# Altium footprint library TI-TPS22860DBVR.PcbLib: 1 footprints
Each footprint in its own frame and in the unit in brackets; x right, y up, seen from the top. Pads: shape width x height; smd on the part's side, far side on the other; paste and mask are expansions set on the pad; w line width, h text height; cw(c..) or ccw(c..) is an arc to the next point about the centre after c.
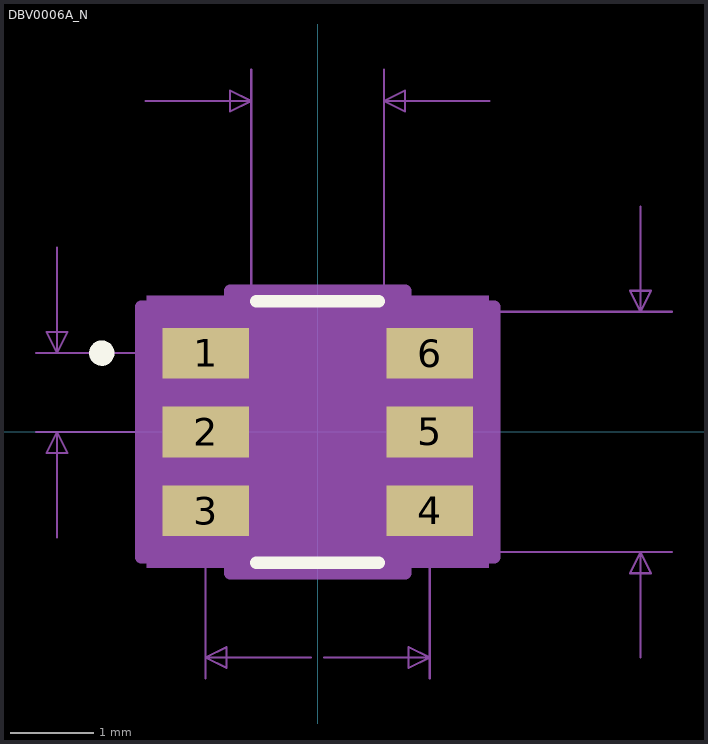
[diagram p0: the footprint, top view; thin cyan lines are the x and y axes]

## DBV0006A_N [mil]
pads (6):
  rect 41x24 smd paste+0 mask+3: 1(-53.15,37.4) 2(-53.15,0) 3(-53.15,-37.4) 4(53.15,-37.4) 5(53.15,0) 6(53.15,37.4)
Top Overlay:
  circle w6: c-102.35,37.4 r3
  lines w6: -29.06,-62 29.06,-62 ; -29.06,62 29.06,62
Mechanical 5:
  region: 81.15,-64.5 -81.15,-64.5 -81.15,64.5 81.15,64.5
Mechanical 7:
  lines w1: -133.65,0 -53.15,0 ; -133.65,37.4 -53.15,37.4 ; -123.65,-50 -123.65,0 ; -123.65,87.4 -123.65,37.4 ; -81.5,157 -31.5,157 ; -53.15,-117 -53.15,-37.4 ; -31.5,57 -31.5,172 ; -3.15,-107 -53.15,-107 ; 3.15,-107 53.15,-107 ; 31.5,-57 168.15,-57 ; 31.5,172 31.5,57 168.15,57 ; 53.15,-117 53.15,-37.4 ; 81.5,157 31.5,157 ; 153.15,-107 153.15,-57 ; 153.15,107 153.15,57 ; -123.65,0 -118.65,-10 -128.65,-10 -123.65,0 ; -123.65,37.4 -118.65,47.4 -128.65,47.4 -123.65,37.4 ; -53.15,-107 -43.15,-112 -43.15,-102 -53.15,-107 ; -31.5,157 -41.5,162 -41.5,152 -31.5,157 ; 31.5,157 41.5,162 41.5,152 31.5,157 ; 53.15,-107 43.15,-112 43.15,-102 53.15,-107 ; 153.15,-57 148.15,-67 158.15,-67 153.15,-57 ; 153.15,57 148.15,67 158.15,67 153.15,57
  text "Default Padstyle: RX41Y24D0T" at -350,-257 h50
  text "Pin 1 Padstyle: RX41Y24D0T" at -325,-317 h50
  text "Alt 1 Padstyle: OX60Y90D30P" at -337.5,-497 h50
  text "Alt 2 Padstyle: OX90Y60D30P" at -337.5,-557 h50
  text "3.740157E-02in/.95mm" at -383.65,6.2 h25
  text ".1062992in/2.7mm" at -100,-132 h25
  text "0.063in/1.6mm" at -81.25,177 h25
  text "0.114in/2.896mm" at 173.15,-12.5 h25
Mechanical 13:
  circle w0: c-21.5,37.4 r3
  lines w0: -12,57 ccw(c0,57) 12,57
  lines w1: -31.5,-57 31.5,-57 31.5,57 -31.5,57 -31.5,-57
Mechanical 15:
  region: -41.5,-59.4 -83.65,-59.4 -83.65,59.4 -41.5,59.4 -41.5,67 41.5,67 41.5,59.4 83.65,59.4 83.65,-59.4 41.5,-59.4 41.5,-67 -41.5,-67
  lines w6: -83.65,-59.4 -83.65,59.4 -41.5,59.4 -41.5,67 41.5,67 41.5,59.4 83.65,59.4 83.65,-59.4 41.5,-59.4 41.5,-67 -41.5,-67 -41.5,-59.4 -83.65,-59.4
3D body: height 10, standoff 0, extent 0,0 10,10